# Altium schematic symbol library POLOLU_3782.SchLib: 1 symbol
Pins are listed as number, name and electrical type; pins without a type are passive.

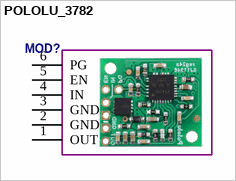
[diagram p0: symbol POLOLU_3782]

## POLOLU_3782
designator MOD?  (value not drawn)
pins: 1 OUT, 2 GND, 3 GND, 4 IN, 5 EN, 6 PG